# EAGLE library part DIL10 (library ic-packages)
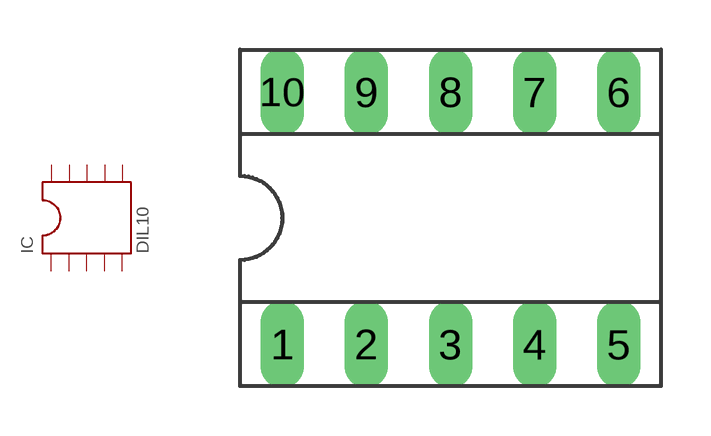
[diagram p2: symbol with the pads of DIL10; footprint DIL10]

Designator prefix IC

## DIL10  [DIL10]
1  P$1
2  P$2
3  P$3
4  P$4
5  P$5
6  P$6
7  P$7
8  P$8
9  P$9
10  P$10

## Footprint DIL10 (pad centres in mm)
drill 0.813 long: 1 -5.08,-3.81; 2 -2.54,-3.81; 3 0,-3.81; 4 2.54,-3.81; 5 5.08,-3.81; 6 5.08,3.81; 7 2.54,3.81; 8 0,3.81; 9 -2.54,3.81; 10 -5.08,3.81